# EAGLE library part AS6C62256-55PCN (library AS6C62256-55PCN)
Alliance Memory AS6C62256-55PCN SRAM Memory, 256kbit, 2.7 5.5 V, 55ns 28-Pin PDIP Source: Datasheet <https://componentsearchengine.com/Datasheets/1/AS6C62256-55PCN.pdf>
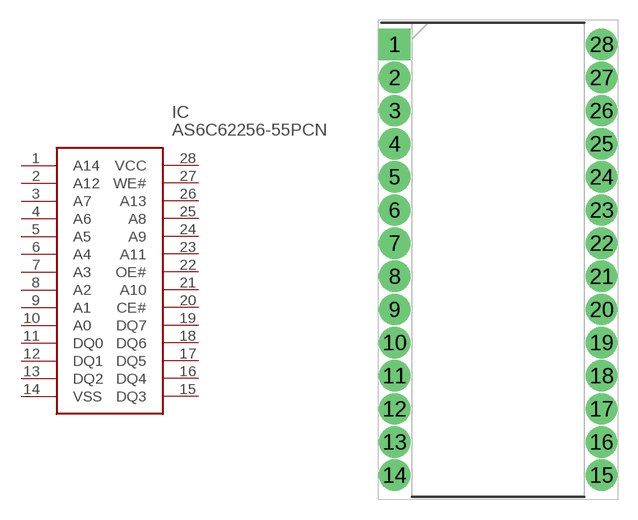
[diagram p0: symbol with the pads of DIP1587W140P254L3632H381Q28N; footprint DIP1587W140P254L3632H381Q28N]

Designator prefix IC

## AS6C62256-55PCN (Description: Alliance Memory AS6C62256-55PCN SRAM Memory, 256kbit, 2.7 5.5 V, 55ns 28-Pin PDIP; Height: 3.81mm; Manufacturer_Name: Alliance Memory; Manufacturer_Part_Number: AS6C62256-55PCN; Mouser_Part_Number: 913-AS6C62256-55PCN; Mouser_Price-Stock: https://www.mouser.com/Search/Refine.aspx?Keyword=913-AS6C62256-55PCN; RS_Part_Number: 0538148; RS_Price-Stock: http://uk.rs-online.com/web/p/products/0538148)  [DIP1587W140P254L3632H381Q28N]
1  A14  in
2  A12  in
3  A7  in
4  A6  in
5  A5  in
6  A4  in
7  A3  in
8  A2  in
9  A1  in
10  A0  in
11  DQ0
12  DQ1
13  DQ2
14  VSS  pwr
15  DQ3
16  DQ4
17  DQ5
18  DQ6
19  DQ7
20  CE#  in
21  A10  in
22  OE#  in
23  A11  in
24  A9  in
25  A8  in
26  A13  in
27  WE#  in
28  VCC  pwr

## Footprint DIP1587W140P254L3632H381Q28N (pad centres in mm)
AS6C62256
drill 1.597 pad 1.997 square: 1 -7.935,16.51
drill 1.597 pad 1.997: 2 -7.935,13.97; 3 -7.935,11.43; 4 -7.935,8.89; 5 -7.935,6.35; 6 -7.935,3.81; 7 -7.935,1.27; 8 -7.935,-1.27; 9 -7.935,-3.81; 10 -7.935,-6.35; 11 -7.935,-8.89; 12 -7.935,-11.43; 13 -7.935,-13.97; 14 -7.935,-16.51; 15 7.935,-16.51; 16 7.935,-13.97; 17 7.935,-11.43; 18 7.935,-8.89; 19 7.935,-6.35; 20 7.935,-3.81; 21 7.935,-1.27; 22 7.935,1.27; 23 7.935,3.81; 24 7.935,6.35; 25 7.935,8.89; 26 7.935,11.43; 27 7.935,13.97; 28 7.935,16.51